# Altium schematic symbol library RF_NFC.SchLib: 9 symbols
Pins are listed as number, name and electrical type; pins without a type are passive.

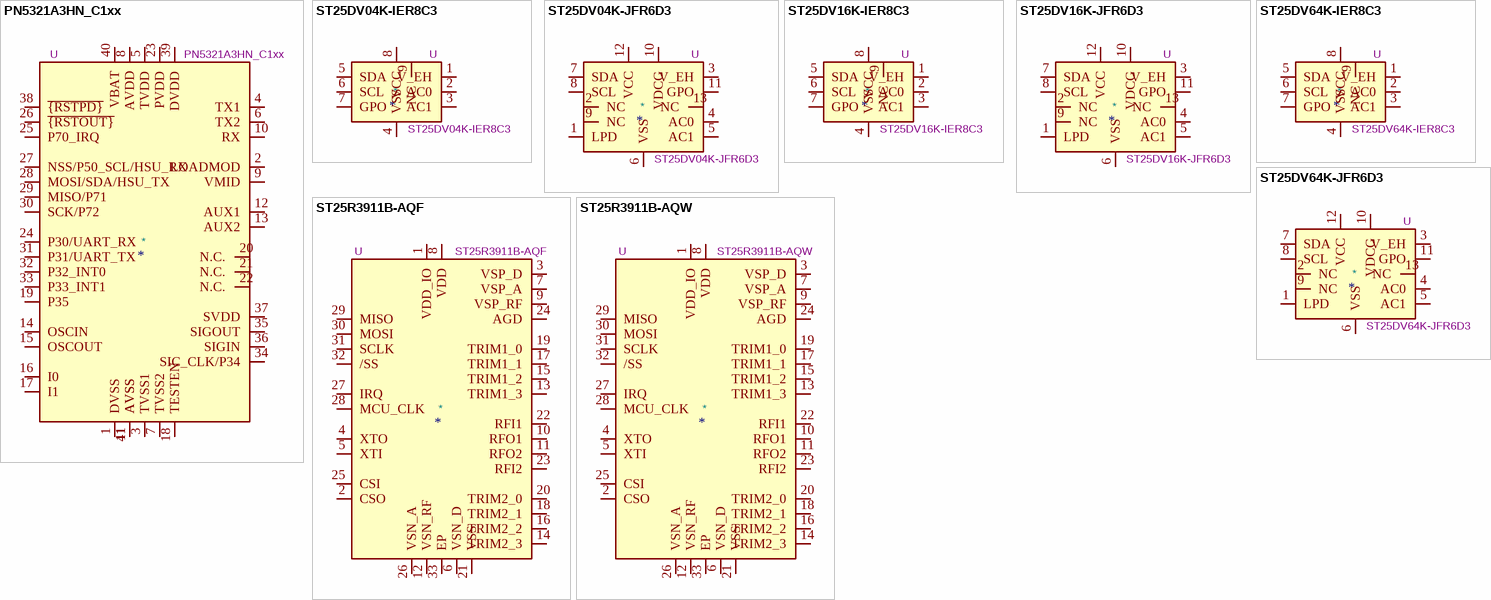
[diagram p0: symbols PN5321A3HN_C1xx to ST25R3911B-AQW]

## PN5321A3HN_C1xx
designator *  value PN5321A3HN_C1xx  Reference: U
Near Field Communication (NFC) controller, QFN-40; ki_fp_filters: HVQFN*1EP*6x6mm*P0.5mm*; Footprint: Package_DFN_QFN:HVQFN-40-1EP_6x6mm_P0.5mm_EP4.1x4.1mm; Datasheet: https://www.nxp.com/docs/en/nxp/data-sheets/PN532_C1.pdf; Description_: Near Field Communication (NFC) controller, QFN-40; ki_keywords: NFC
pins: 1 DVSS, 2 LOADMOD, 3 TVSS1, 4 TX1, 5 TVDD, 6 TX2, 7 TVSS2, 8 AVDD, 9 VMID, 10 RX, 11 AVSS, 12 AUX1, 13 AUX2, 14 OSCIN, 15 OSCOUT, 16 I0, 17 I1, 18 TESTEN, 19 P35, 20 N.C., 21 N.C., 22 N.C., 23 PVDD, 24 P30/UART_RX, 25 P70_IRQ, 26 ~{{RSTOUT}}, 27 NSS/P50_SCL/HSU_RX, 28 MOSI/SDA/HSU_TX, 29 MISO/P71, 30 SCK/P72, 31 P31/UART_TX, 32 P32_INT0, 33 P33_INT1, 34 SIC_CLK/P34, 35 SIGOUT, 36 SIGIN, 37 SVDD, 38 ~{{RSTPD}}, 39 DVDD, 40 VBAT, 41 AVSS

## ST25DV04K-IER8C3
designator *  value ST25DV04K-IER8C3  Reference: U
Dynamic NFC/RFID tag IC with 4-Kbit EEPROM, UFDFPN-8; ki_keywords: NFC Tag; ki_fp_filters: DFN*3x2mm*P0.5mm*; Footprint: Package_DFN_QFN:DFN-8-1EP_3x2mm_P0.5mm_EP1.36x1.46mm; Datasheet: https://www.st.com/resource/en/datasheet/st25dv04k.pdf; Description_: Dynamic NFC/RFID tag IC with 4-Kbit EEPROM, UFDFPN-8
pins: 1 V_EH, 2 AC0, 3 AC1, 4 VSS, 5 SDA, 6 SCL, 7 GPO, 8 VCC, 9 NC

## ST25DV04K-JFR6D3
designator *  value ST25DV04K-JFR6D3  Reference: U
Dynamic NFC/RFID tag IC with 4-Kbit EEPROM, UFDFPN-12; ki_keywords: NFC Tag; ki_fp_filters: ST*UFDFPN*3x3mm*P0.5mm*EP1.4x2.55mm*; Footprint: Package_DFN_QFN:ST_UFDFPN-12-1EP_3x3mm_P0.5mm_EP1.4x2.55mm; Datasheet: https://www.st.com/resource/en/datasheet/st25dv04k.pdf; Description_: Dynamic NFC/RFID tag IC with 4-Kbit EEPROM, UFDFPN-12
pins: 1 LPD, 2 NC, 3 V_EH, 4 AC0, 5 AC1, 6 VSS, 7 SDA, 8 SCL, 9 NC, 10 VDCG, 11 GPO, 12 VCC, 13 NC

## ST25DV16K-IER8C3
designator *  value ST25DV16K-IER8C3  Reference: U
Dynamic NFC/RFID tag IC with 16-Kbit EEPROM, UFDFPN-8; ki_keywords: NFC Tag; ki_fp_filters: DFN*3x2mm*P0.5mm*; Footprint: Package_DFN_QFN:DFN-8-1EP_3x2mm_P0.5mm_EP1.36x1.46mm; Datasheet: https://www.st.com/resource/en/datasheet/st25dv04k.pdf; Description_: Dynamic NFC/RFID tag IC with 16-Kbit EEPROM, UFDFPN-8
pins: 1 V_EH, 2 AC0, 3 AC1, 4 VSS, 5 SDA, 6 SCL, 7 GPO, 8 VCC, 9 NC

## ST25DV16K-JFR6D3
designator *  value ST25DV16K-JFR6D3  Reference: U
Dynamic NFC/RFID tag IC with 16-Kbit EEPROM, UFDFPN-12; ki_keywords: NFC Tag; ki_fp_filters: ST*UFDFPN*3x3mm*P0.5mm*EP1.4x2.55mm*; Footprint: Package_DFN_QFN:ST_UFDFPN-12-1EP_3x3mm_P0.5mm_EP1.4x2.55mm; Datasheet: https://www.st.com/resource/en/datasheet/st25dv04k.pdf; Description_: Dynamic NFC/RFID tag IC with 16-Kbit EEPROM, UFDFPN-12
pins: 1 LPD, 2 NC, 3 V_EH, 4 AC0, 5 AC1, 6 VSS, 7 SDA, 8 SCL, 9 NC, 10 VDCG, 11 GPO, 12 VCC, 13 NC

## ST25DV64K-IER8C3
designator *  value ST25DV64K-IER8C3  Reference: U
Dynamic NFC/RFID tag IC with 64-Kbit EEPROM, UFDFPN-8; ki_keywords: NFC Tag; ki_fp_filters: DFN*3x2mm*P0.5mm*; Footprint: Package_DFN_QFN:DFN-8-1EP_3x2mm_P0.5mm_EP1.36x1.46mm; Datasheet: https://www.st.com/resource/en/datasheet/st25dv04k.pdf; Description_: Dynamic NFC/RFID tag IC with 64-Kbit EEPROM, UFDFPN-8
pins: 1 V_EH, 2 AC0, 3 AC1, 4 VSS, 5 SDA, 6 SCL, 7 GPO, 8 VCC, 9 NC

## ST25DV64K-JFR6D3
designator *  value ST25DV64K-JFR6D3  Reference: U
Dynamic NFC/RFID tag IC with 64-Kbit EEPROM, UFDFPN-12; ki_keywords: NFC Tag; ki_fp_filters: ST*UFDFPN*3x3mm*P0.5mm*EP1.4x2.55mm*; Footprint: Package_DFN_QFN:ST_UFDFPN-12-1EP_3x3mm_P0.5mm_EP1.4x2.55mm; Datasheet: https://www.st.com/resource/en/datasheet/st25dv04k.pdf; Description_: Dynamic NFC/RFID tag IC with 64-Kbit EEPROM, UFDFPN-12
pins: 1 LPD, 2 NC, 3 V_EH, 4 AC0, 5 AC1, 6 VSS, 7 SDA, 8 SCL, 9 NC, 10 VDCG, 11 GPO, 12 VCC, 13 NC

## ST25R3911B-AQF
designator *  value ST25R3911B-AQF  Reference: U
High performance HR reader/NFC initiator with 1.4W supporting VHBR and AAT, QFN32; ki_keywords: NFC; ki_fp_filters: *QFN*1EP*5x5mm*P0.5mm*; Footprint: Package_DFN_QFN:QFN-32-1EP_5x5mm_P0.5mm_EP3.6x3.6mm_ThermalVias; Datasheet: https://www.st.com/resource/en/datasheet/st25r3911b.pdf; Description_: High performance HR reader/NFC initiator with 1.4W supporting VHBR and AAT, QFN32
pins: 1 VDD_IO, 2 CSO, 3 VSP_D, 4 XTO, 5 XTI, 6 VSN_D, 7 VSP_A, 8 VDD, 9 VSP_RF, 10 RFO1, 11 RFO2, 12 VSN_RF, 13 TRIM1_3, 14 TRIM2_3, 15 TRIM1_2, 16 TRIM2_2, 17 TRIM1_1, 18 TRIM2_1, 19 TRIM1_0, 20 TRIM2_0, 21 VSS, 22 RFI1, 23 RFI2, 24 AGD, 25 CSI, 26 VSN_A, 27 IRQ, 28 MCU_CLK, 29 MISO, 30 MOSI, 31 SCLK, 32 /SS, 33 EP

## ST25R3911B-AQW
designator *  value ST25R3911B-AQW  Reference: U
High performance HR reader/NFC initiator with 1.4W supporting VHBR and AAT, VFQFPN32; ki_keywords: NFC; ki_fp_filters: *QFN*1EP*5x5mm*P0.5mm*; Footprint: Package_DFN_QFN:VQFN-32-1EP_5x5mm_P0.5mm_EP3.5x3.5mm_ThermalVias; Datasheet: https://www.st.com/resource/en/datasheet/st25r3911b.pdf; Description_: High performance HR reader/NFC initiator with 1.4W supporting VHBR and AAT, VFQFPN32
pins: 1 VDD_IO, 2 CSO, 3 VSP_D, 4 XTO, 5 XTI, 6 VSN_D, 7 VSP_A, 8 VDD, 9 VSP_RF, 10 RFO1, 11 RFO2, 12 VSN_RF, 13 TRIM1_3, 14 TRIM2_3, 15 TRIM1_2, 16 TRIM2_2, 17 TRIM1_1, 18 TRIM2_1, 19 TRIM1_0, 20 TRIM2_0, 21 VSS, 22 RFI1, 23 RFI2, 24 AGD, 25 CSI, 26 VSN_A, 27 IRQ, 28 MCU_CLK, 29 MISO, 30 MOSI, 31 SCLK, 32 /SS, 33 EP